# Altium footprint library aiskylab-14Connectors-01FFC-FPC.PcbLib: 118 footprints (part 3 of 8)
Each footprint in its own frame and in the unit in brackets; x right, y up, seen from the top. Pads: shape width x height; smd on the part's side, far side on the other; paste and mask are expansions set on the pad; w line width, h text height; cw(c..) or ccw(c..) is an arc to the next point about the centre after c.
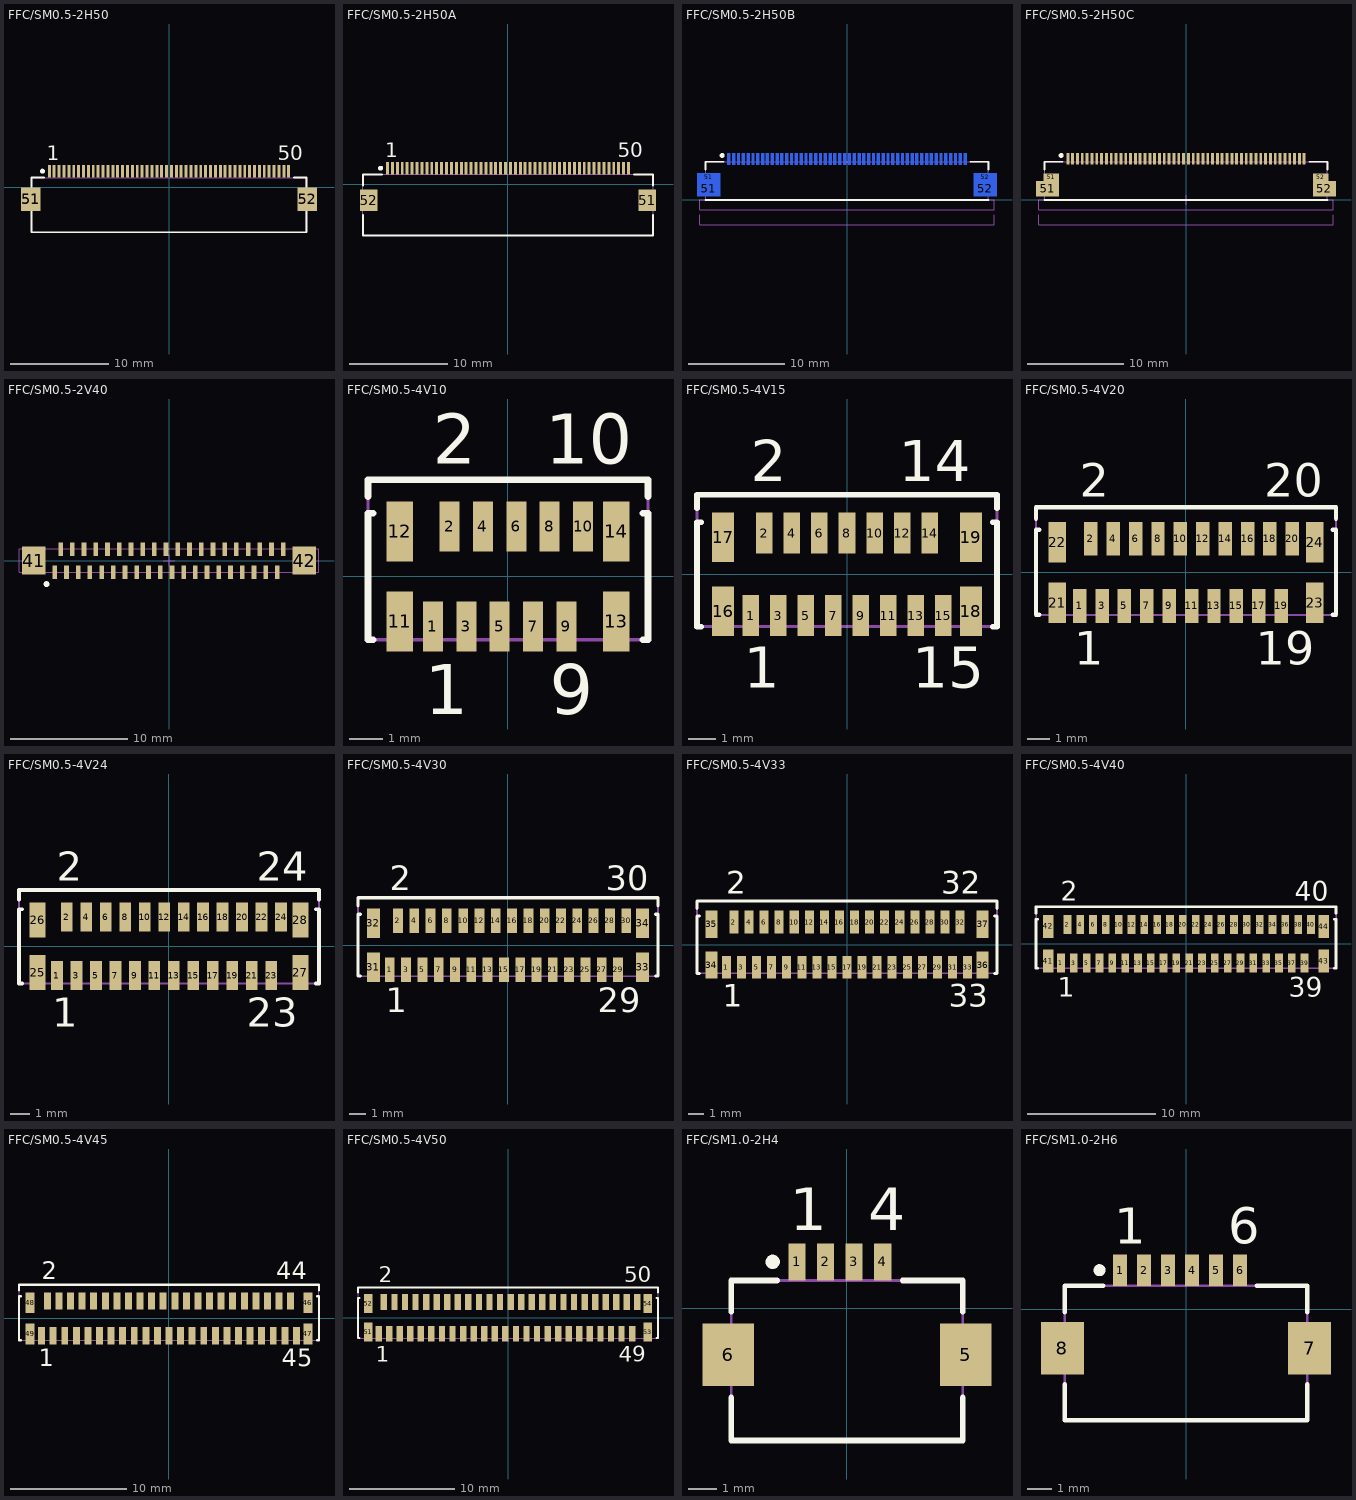
[diagram p2: the footprints below, top view; thin cyan lines are the x and y axes]

## FFC/SM0.5-2H50 [mm] "Connector; FH12 Series; 50 Position; 0.5mm Spaced Bottom Contact"
height 2
pads (52):
  rect 0.3x1.3 smd: 1(-12.25,1.625) 2(-11.75,1.625) 3(-11.25,1.625) 4(-10.75,1.625) 5(-10.25,1.625) 6(-9.75,1.625) 7(-9.25,1.625) 8(-8.75,1.625) 9(-8.25,1.625) 10(-7.75,1.625) 11(-7.25,1.625) 12(-6.75,1.625) 13(-6.25,1.625) 14(-5.75,1.625) 15(-5.25,1.625) 16(-4.75,1.625) 17(-4.25,1.625) 18(-3.75,1.625) 19(-3.25,1.625) 20(-2.75,1.625) 21(-2.25,1.625) 22(-1.75,1.625) 23(-1.25,1.625) 24(-0.75,1.625) 25(-0.25,1.625) 26(0.25,1.625) 27(0.75,1.625) 28(1.25,1.625) 29(1.75,1.625) 30(2.25,1.625) 31(2.75,1.625) 32(3.25,1.625) 33(3.75,1.625) 34(4.25,1.625) 35(4.75,1.625) 36(5.25,1.625) 37(5.75,1.625) 38(6.25,1.625) 39(6.75,1.625) 40(7.25,1.625) 41(7.75,1.625) 42(8.25,1.625) 43(8.75,1.625) 44(9.25,1.625) 45(9.75,1.625) 46(10.25,1.625) 47(10.75,1.625) 48(11.25,1.625) 49(11.75,1.625) 50(12.25,1.625)
  rect 2x2.4 smd: 51(-14.15,-1.25) 52(14.15,-1.25)
Top Overlay:
  circle w0.25: c-12.95,1.625 r0.125
  lines w0.2: -14.05,-2.15 -14.05,-4.625 14.05,-4.625 14.05,-2.2 ; -14.05,-0.125 -14.05,0.975 -12.8,0.975 ; 12.8,0.975 14.05,0.975 14.05,-0.125
  text "50" at 11.15,2.725 h1.5
  text "1" at -12.5,2.725 h1.5
Bottom Value:
  lines w0.1: -14.05,-4.625 14.05,-4.625 14.05,0.975 -14.05,0.975 -14.05,-4.625

## FFC/SM0.5-2H50A [mm] "Connector; FH12 Series; 50 Position; 0.5mm Spaced Top Contact"
height 2
pads (52):
  rect 0.3x1.3 smd: 1(-12.25,1.625) 2(-11.75,1.625) 3(-11.25,1.625) 4(-10.75,1.625) 5(-10.25,1.625) 6(-9.75,1.625) 7(-9.25,1.625) 8(-8.75,1.625) 9(-8.25,1.625) 10(-7.75,1.625) 11(-7.25,1.625) 12(-6.75,1.625) 13(-6.25,1.625) 14(-5.75,1.625) 15(-5.25,1.625) 16(-4.75,1.625) 17(-4.25,1.625) 18(-3.75,1.625) 19(-3.25,1.625) 20(-2.75,1.625) 21(-2.25,1.625) 22(-1.75,1.625) 23(-1.25,1.625) 24(-0.75,1.625) 25(-0.25,1.625) 26(0.25,1.625) 27(0.75,1.625) 28(1.25,1.625) 29(1.75,1.625) 30(2.25,1.625) 31(2.75,1.625) 32(3.25,1.625) 33(3.75,1.625) 34(4.25,1.625) 35(4.75,1.625) 36(5.25,1.625) 37(5.75,1.625) 38(6.25,1.625) 39(6.75,1.625) 40(7.25,1.625) 41(7.75,1.625) 42(8.25,1.625) 43(8.75,1.625) 44(9.25,1.625) 45(9.75,1.625) 46(10.25,1.625) 47(10.75,1.625) 48(11.25,1.625) 49(11.75,1.625) 50(12.25,1.625)
  rect 1.8x2.2 smd: 51(14.15,-1.625) 52(-14.15,-1.625)
Top Overlay:
  circle w0.25: c-12.95,1.625 r0.125
  lines w0.2: -14.75,-3.125 -14.75,-5.2 14.75,-5.2 14.75,-3.125 ; -14.75,-0.125 -14.75,1 -12.8,1 ; 12.8,1 14.75,1 14.75,-0.125
  text "50" at 11.15,2.725 h1.5
  text "1" at -12.5,2.725 h1.5
Bottom Value:
  lines w0.1: -14.75,-5.2 14.75,-5.2 14.75,1 -14.75,1 -14.75,-5.2

## FFC/SM0.5-2H50B [mm] "Connector; FPC/FFC, SM, 50 Position, Right Angle, Pitch 0.50mm, Body 30.5x5.0mm (LxW), Bottom Contatcts"
height 2
pads (54):
  rect 0.3x1.2 smd far side: 1(-12.25,4.25) 2(-11.75,4.25) 3(-11.25,4.25) 4(-10.75,4.25) 5(-10.25,4.25) 6(-9.75,4.25) 7(-9.25,4.25) 8(-8.75,4.25) 9(-8.25,4.25) 10(-7.75,4.25) 11(-7.25,4.25) 12(-6.75,4.25) 13(-6.25,4.25) 14(-5.75,4.25) 15(-5.25,4.25) 16(-4.75,4.25) 17(-4.25,4.25) 18(-3.75,4.25) 19(-3.25,4.25) 20(-2.75,4.25) 21(-2.25,4.25) 22(-1.75,4.25) 23(-1.25,4.25) 24(-0.75,4.25) 25(-0.25,4.25) 26(0.25,4.25) 27(0.75,4.25) 28(1.25,4.25) 29(1.75,4.25) 30(2.25,4.25) 31(2.75,4.25) 32(3.25,4.25) 33(3.75,4.25) 34(4.25,4.25) 35(4.75,4.25) 36(5.25,4.25) 37(5.75,4.25) 38(6.25,4.25) 39(6.75,4.25) 40(7.25,4.25) 41(7.75,4.25) 42(8.25,4.25) 43(8.75,4.25) 44(9.25,4.25) 45(9.75,4.25) 46(10.25,4.25) 47(10.75,4.25) 48(11.25,4.25) 49(11.75,4.25) 50(12.25,4.25)
  rect 2.4x1.6 smd far side: 51(-14.35,1.15) 52(14.35,1.15)
  rect 2.4x0.8 smd far side: 51(-14.35,2.35) 52(14.35,2.35)
Top Overlay:
  circle w0.25: c-12.95,4.6 r0.125
  lines w0.2: -14.65,0 14.65,0 ; -14.65,3.15 -14.65,3.95 -12.8,3.95 ; 12.8,3.95 14.65,3.95 14.65,3.15
Bottom Value:
  lines w0.1: -15.25,-1.55 -15.25,-2.6 15.25,-2.6 15.25,-1.55 ; -15.25,-1.05 15.25,-1.05 15.25,0 -15.25,0 -15.25,-1.05 ; -14.65,0 -14.65,3.95 14.65,3.95 14.65,0 -14.65,0

## FFC/SM0.5-2H50C [mm] "Connector; FPC/FFC, SM, 50 Position, Right Angle, Pitch 0.50mm, Body 30.5x5.0mm (LxW), Top Contacts"
height 2
pads (54):
  rect 0.3x1.2 smd: 1(-12.25,4.25) 2(-11.75,4.25) 3(-11.25,4.25) 4(-10.75,4.25) 5(-10.25,4.25) 6(-9.75,4.25) 7(-9.25,4.25) 8(-8.75,4.25) 9(-8.25,4.25) 10(-7.75,4.25) 11(-7.25,4.25) 12(-6.75,4.25) 13(-6.25,4.25) 14(-5.75,4.25) 15(-5.25,4.25) 16(-4.75,4.25) 17(-4.25,4.25) 18(-3.75,4.25) 19(-3.25,4.25) 20(-2.75,4.25) 21(-2.25,4.25) 22(-1.75,4.25) 23(-1.25,4.25) 24(-0.75,4.25) 25(-0.25,4.25) 26(0.25,4.25) 27(0.75,4.25) 28(1.25,4.25) 29(1.75,4.25) 30(2.25,4.25) 31(2.75,4.25) 32(3.25,4.25) 33(3.75,4.25) 34(4.25,4.25) 35(4.75,4.25) 36(5.25,4.25) 37(5.75,4.25) 38(6.25,4.25) 39(6.75,4.25) 40(7.25,4.25) 41(7.75,4.25) 42(8.25,4.25) 43(8.75,4.25) 44(9.25,4.25) 45(9.75,4.25) 46(10.25,4.25) 47(10.75,4.25) 48(11.25,4.25) 49(11.75,4.25) 50(12.25,4.25)
  rect 2.4x1.6 smd: 51(-14.35,1.15) 52(14.35,1.15)
  rect 1.6x0.8 smd: 51(-13.95,2.35) 52(13.95,2.35)
Top Overlay:
  circle w0.25: c-12.95,4.6 r0.125
  lines w0.2: -14.65,0 14.65,0 ; -14.65,3.15 -14.65,3.95 -12.8,3.95 ; 12.8,3.95 14.65,3.95 14.65,3.15
Bottom Value:
  lines w0.1: -15.25,-1.55 -15.25,-2.6 15.25,-2.6 15.25,-1.55 ; -15.25,-1.05 -15.25,0 15.25,0 15.25,-1.05 -15.25,-1.05 ; -14.65,0 14.65,0 14.65,3.95 -14.65,3.95 -14.65,0
Bottom 3D Body:
  lines w0.1: -0.5,0 0.5,0 ; 0,-0.5 0,0.5

## FFC/SM0.5-2V40 [mm] "Connector; ZIF FPC 40 Position; 0.5mm Spaced Vertical Mounting"
height 4.9
pads (42):
  rect 0.4x1.15 smd: 1(-9.75,-0.975) 2(-9.25,0.975) 3(-8.75,-0.975) 4(-8.25,0.975) 5(-7.75,-0.975) 6(-7.25,0.975) 7(-6.75,-0.975) 8(-6.25,0.975) 9(-5.75,-0.975) 10(-5.25,0.975) 11(-4.75,-0.975) 12(-4.25,0.975) 13(-3.75,-0.975) 14(-3.25,0.975) 15(-2.75,-0.975) 16(-2.25,0.975) 17(-1.75,-0.975) 18(-1.25,0.975) 19(-0.75,-0.975) 20(-0.25,0.975) 21(0.25,-0.975) 22(0.75,0.975) 23(1.25,-0.975) 24(1.75,0.975) 25(2.25,-0.975) 26(2.75,0.975) 27(3.25,-0.975) 28(3.75,0.975) 29(4.25,-0.975) 30(4.75,0.975) 31(5.25,-0.975) 32(5.75,0.975) 33(6.25,-0.975) 34(6.75,0.975) 35(7.25,-0.975) 36(7.75,0.975) 37(8.25,-0.975) 38(8.75,0.975) 39(9.25,-0.975) 40(9.75,0.975)
  rect 2x2.4 smd: 41(-11.55,0) 42(11.55,0)
Top Overlay:
  circle w0.25: c-10.45,-2 r0.125
Bottom Value:
  lines w0.1: -12.25,-1 -12.25,1 ; 12.25,-1 12.25,1 ; -12.8,-1 -12.8,1 12.8,1 12.8,-1 -12.8,-1
Bottom 3D Body:
  lines w0.1: -0.5,0 0.5,0 ; 0,-0.5 0,0.5

## FFC/SM0.5-4V10 [mm] "Connector; FH12 Series; 10 Position; 0.5mm Spaced Vertical Mounting"
height 4.85
pads (14):
  rect 0.6x1.5 smd: 1(-2.25,-1.5) 2(-1.75,1.5) 3(-1.25,-1.5) 4(-0.75,1.5) 5(-0.25,-1.5) 6(0.25,1.5) 7(0.75,-1.5) 8(1.25,1.5) 9(1.75,-1.5) 10(2.25,1.5)
  rect 0.8x1.8 smd: 11(-3.25,-1.35) 12(-3.25,1.35) 13(3.25,-1.35) 14(3.25,1.35)
Top Overlay:
  lines w0.2: -4.2,2.4 -4.2,2.9 4.2,2.9 4.2,2.4 ; -4.05,-1.9 -4.2,-1.9 -4.2,1.9 -4.05,1.9 ; 4.05,-1.9 4.2,-1.9 4.2,1.9 4.05,1.9
  text "9" at 1.25,-4.125 h1.5
  text "10" at 1.125,3.375 h1.5
  text "1" at -2.5,-4.125 h1.5
  text "2" at -2.25,3.375 h1.5
Bottom Value:
  lines w0.1: -4.2,-1.9 -4.2,2.9 4.2,2.9 4.2,-1.9 -4.2,-1.9

## FFC/SM0.5-4V15 [mm] "Connector; FH12 Series; 15 Position; 0.5mm Spaced Vertical Mounting"
height 4.85
pads (19):
  rect 0.6x1.5 smd: 1(-3.5,-1.5) 2(-3,1.5) 3(-2.5,-1.5) 4(-2,1.5) 5(-1.5,-1.5) 6(-1,1.5) 7(-0.5,-1.5) 8(0,1.5) 9(0.5,-1.5) 10(1,1.5) 11(1.5,-1.5) 12(2,1.5) 13(2.5,-1.5) 14(3,1.5) 15(3.5,-1.5)
  rect 0.8x1.8 smd: 16(-4.5,-1.35) 17(-4.5,1.35) 18(4.5,-1.35) 19(4.5,1.35)
Top Overlay:
  lines w0.2: -5.45,2.4 -5.45,2.9 5.45,2.9 5.45,2.4 ; -5.3,-1.9 -5.45,-1.9 -5.45,1.9 -5.3,1.9 ; 5.3,-1.9 5.45,-1.9 5.45,1.9 5.3,1.9
  text "14" at 1.875,3.375 h1.5
  text "1" at -3.75,-4.125 h1.5
  text "2" at -3.5,3.375 h1.5
  text "15" at 2.375,-4.125 h1.5
Bottom Value:
  lines w0.1: -5.45,-1.9 5.45,-1.9 5.45,2.9 -5.45,2.9 -5.45,-1.9

## FFC/SM0.5-4V20 [mm] "Connector; FH12 Series; 20 Position; 0.5mm Spaced Vertical Mounting"
height 4.85
pads (24):
  rect 0.6x1.5 smd: 1(-4.75,-1.5) 2(-4.25,1.5) 3(-3.75,-1.5) 4(-3.25,1.5) 5(-2.75,-1.5) 6(-2.25,1.5) 7(-1.75,-1.5) 8(-1.25,1.5) 9(-0.75,-1.5) 10(-0.25,1.5) 11(0.25,-1.5) 12(0.75,1.5) 13(1.25,-1.5) 14(1.75,1.5) 15(2.25,-1.5) 16(2.75,1.5) 17(3.25,-1.5) 18(3.75,1.5) 19(4.25,-1.5) 20(4.75,1.5)
  rect 0.8x1.8 smd: 21(-5.75,-1.35) 22(-5.75,1.35) 23(5.75,-1.35) 24(5.75,1.35)
Top Overlay:
  lines w0.2: -6.7,2.4 -6.7,2.9 6.7,2.9 6.7,2.4 ; -6.55,-1.9 -6.7,-1.9 -6.7,1.9 -6.55,1.9 ; 6.55,-1.9 6.7,-1.9 6.7,1.9 6.55,1.9
  text "19" at 3.125,-4.125 h1.5
  text "20" at 3.5,3.375 h1.5
  text "2" at -4.75,3.375 h1.5
  text "1" at -5,-4.125 h1.5
Bottom Value:
  lines w0.1: -6.7,-1.9 -6.7,2.9 6.7,2.9 6.7,-1.9 -6.7,-1.9

## FFC/SM0.5-4V24 [mm] "Connector; FH12 Series; 24 Position; 0.5mm Spaced Vertical Mounting"
height 4.85
pads (28):
  rect 0.6x1.5 smd: 1(-5.75,-1.5) 2(-5.25,1.5) 3(-4.75,-1.5) 4(-4.25,1.5) 5(-3.75,-1.5) 6(-3.25,1.5) 7(-2.75,-1.5) 8(-2.25,1.5) 9(-1.75,-1.5) 10(-1.25,1.5) 11(-0.75,-1.5) 12(-0.25,1.5) 13(0.25,-1.5) 14(0.75,1.5) 15(1.25,-1.5) 16(1.75,1.5) 17(2.25,-1.5) 18(2.75,1.5) 19(3.25,-1.5) 20(3.75,1.5) 21(4.25,-1.5) 22(4.75,1.5) 23(5.25,-1.5) 24(5.75,1.5)
  rect 0.8x1.8 smd: 25(-6.75,-1.35) 26(-6.75,1.35) 27(6.75,-1.35) 28(6.75,1.35)
Top Overlay:
  lines w0.2: -7.7,2.4 -7.7,2.9 7.7,2.9 7.7,2.4 ; -7.55,-1.9 -7.7,-1.9 -7.7,1.9 -7.55,1.9 ; 7.55,-1.9 7.7,-1.9 7.7,1.9 7.55,1.9
  text "23" at 4,-4.125 h1.5
  text "24" at 4.5,3.375 h1.5
  text "2" at -5.75,3.375 h1.5
  text "1" at -6,-4.125 h1.5
Bottom Value:
  lines w0.1: -7.7,-1.9 -7.7,2.9 7.7,2.9 7.7,-1.9 -7.7,-1.9

## FFC/SM0.5-4V30 [mm] "Connector; FH12 Series; 30 Position; 0.5mm Spaced Vertical Mounting"
height 4.85
pads (34):
  rect 0.6x1.5 smd: 1(-7.25,-1.5) 2(-6.75,1.5) 3(-6.25,-1.5) 4(-5.75,1.5) 5(-5.25,-1.5) 6(-4.75,1.5) 7(-4.25,-1.5) 8(-3.75,1.5) 9(-3.25,-1.5) 10(-2.75,1.5) 11(-2.25,-1.5) 12(-1.75,1.5) 13(-1.25,-1.5) 14(-0.75,1.5) 15(-0.25,-1.5) 16(0.25,1.5) 17(0.75,-1.5) 18(1.25,1.5) 19(1.75,-1.5) 20(2.25,1.5) 21(2.75,-1.5) 22(3.25,1.5) 23(3.75,-1.5) 24(4.25,1.5) 25(4.75,-1.5) 26(5.25,1.5) 27(5.75,-1.5) 28(6.25,1.5) 29(6.75,-1.5) 30(7.25,1.5)
  rect 0.8x1.8 smd: 31(-8.25,-1.35) 32(-8.25,1.35) 33(8.25,-1.35) 34(8.25,1.35)
Top Overlay:
  lines w0.2: -9.2,2.4 -9.2,2.9 9.2,2.9 9.2,2.4 ; -9.05,-1.9 -9.2,-1.9 -9.2,1.9 -9.05,1.9 ; 9.05,-1.9 9.2,-1.9 9.2,1.9 9.05,1.9
  text "1" at -7.5,-4.125 h1.5
  text "30" at 6,3.375 h1.5
  text "2" at -7.25,3.375 h1.5
  text "29" at 5.5,-4.125 h1.5
Bottom Value:
  lines w0.1: -9.2,-1.9 -9.2,2.9 9.2,2.9 9.2,-1.9 -9.2,-1.9

## FFC/SM0.5-4V33 [mm] "Connector; FH12 Series; 33 Position; 0.5mm Spaced Vertical Mounting"
height 4.85
pads (37):
  rect 0.6x1.5 smd: 1(-8,-1.5) 2(-7.5,1.5) 3(-7,-1.5) 4(-6.5,1.5) 5(-6,-1.5) 6(-5.5,1.5) 7(-5,-1.5) 8(-4.5,1.5) 9(-4,-1.5) 10(-3.5,1.5) 11(-3,-1.5) 12(-2.5,1.5) 13(-2,-1.5) 14(-1.5,1.5) 15(-1,-1.5) 16(-0.5,1.5) 17(0,-1.5) 18(0.5,1.5) 19(1,-1.5) 20(1.5,1.5) 21(2,-1.5) 22(2.5,1.5) 23(3,-1.5) 24(3.5,1.5) 25(4,-1.5) 26(4.5,1.5) 27(5,-1.5) 28(5.5,1.5) 29(6,-1.5) 30(6.5,1.5) 31(7,-1.5) 32(7.5,1.5) 33(8,-1.5)
  rect 0.8x1.8 smd: 34(-9,-1.35) 35(-9,1.35) 36(9,-1.35) 37(9,1.35)
Top Overlay:
  lines w0.2: -9.95,2.4 -9.95,2.9 9.95,2.9 9.95,2.4 ; -9.8,-1.9 -9.95,-1.9 -9.95,1.9 -9.8,1.9 ; 9.8,-1.9 9.95,-1.9 9.95,1.9 9.8,1.9
  text "33" at 6.75,-4.125 h1.5
  text "1" at -8.25,-4.125 h1.5
  text "2" at -8,3.375 h1.5
  text "32" at 6.25,3.375 h1.5
Bottom Value:
  lines w0.1: -9.95,-1.9 -9.95,2.9 9.95,2.9 9.95,-1.9 -9.95,-1.9

## FFC/SM0.5-4V40 [mm] "Connector; FH12 Series; 40 Position; 0.5mm Spaced Vertical Mounting"
height 4.85
pads (44):
  rect 0.6x1.5 smd: 1(-9.75,-1.5) 2(-9.25,1.5) 3(-8.75,-1.5) 4(-8.25,1.5) 5(-7.75,-1.5) 6(-7.25,1.5) 7(-6.75,-1.5) 8(-6.25,1.5) 9(-5.75,-1.5) 10(-5.25,1.5) 11(-4.75,-1.5) 12(-4.25,1.5) 13(-3.75,-1.5) 14(-3.25,1.5) 15(-2.75,-1.5) 16(-2.25,1.5) 17(-1.75,-1.5) 18(-1.25,1.5) 19(-0.75,-1.5) 20(-0.25,1.5) 21(0.25,-1.5) 22(0.75,1.5) 23(1.25,-1.5) 24(1.75,1.5) 25(2.25,-1.5) 26(2.75,1.5) 27(3.25,-1.5) 28(3.75,1.5) 29(4.25,-1.5) 30(4.75,1.5) 31(5.25,-1.5) 32(5.75,1.5) 33(6.25,-1.5) 34(6.75,1.5) 35(7.25,-1.5) 36(7.75,1.5) 37(8.25,-1.5) 38(8.75,1.5) 39(9.25,-1.5) 40(9.75,1.5)
  rect 0.8x1.8 smd: 41(-10.75,-1.35) 42(-10.75,1.35) 43(10.75,-1.35) 44(10.75,1.35)
Top Overlay:
  lines w0.2: -11.7,2.4 -11.7,2.9 11.7,2.9 11.7,2.4 ; -11.55,-1.9 -11.7,-1.9 -11.7,1.9 -11.55,1.9 ; 11.55,-1.9 11.7,-1.9 11.7,1.9 11.55,1.9
  text "39" at 8,-4.125 h1.5
  text "40" at 8.5,3.375 h1.5
  text "2" at -9.75,3.375 h1.5
  text "1" at -10,-4.125 h1.5
Bottom Value:
  lines w0.1: -11.7,-1.9 -11.7,2.9 11.7,2.9 11.7,-1.9 -11.7,-1.9

## FFC/SM0.5-4V45 [mm] "Connector; FH12 Series; 45 Position; 0.5mm Spaced Vertical Mounting"
height 4.85
pads (49):
  rect 0.6x1.5 smd: 1(-11,-1.5) 2(-10.5,1.5) 3(-10,-1.5) 4(-9.5,1.5) 5(-9,-1.5) 6(-8.5,1.5) 7(-8,-1.5) 8(-7.5,1.5) 9(-7,-1.5) 10(-6.5,1.5) 11(-6,-1.5) 12(-5.5,1.5) 13(-5,-1.5) 14(-4.5,1.5) 15(-4,-1.5) 16(-3.5,1.5) 17(-3,-1.5) 18(-2.5,1.5) 19(-2,-1.5) 20(-1.5,1.5) 21(-1,-1.5) 22(-0.5,1.5) 23(0,-1.5) 24(0.5,1.5) 25(1,-1.5) 26(1.5,1.5) 27(2,-1.5) 28(2.5,1.5) 29(3,-1.5) 30(3.5,1.5) 31(4,-1.5) 32(4.5,1.5) 33(5,-1.5) 34(5.5,1.5) 35(6,-1.5) 36(6.5,1.5) 37(7,-1.5) 38(7.5,1.5) 39(8,-1.5) 40(8.5,1.5) 41(9,-1.5) 42(9.5,1.5) 43(10,-1.5) 44(10.5,1.5) 45(11,-1.5)
  rect 0.8x1.8 smd: 46(12,1.35) 47(12,-1.35) 48(-12,1.35) 49(-12,-1.35)
Top Overlay:
  lines w0.2: -12.95,2.4 -12.95,2.9 12.95,2.9 12.95,2.4 ; -12.8,-1.9 -12.95,-1.9 -12.95,1.9 -12.8,1.9 ; 12.8,-1.9 12.95,-1.9 12.95,1.9 12.8,1.9
  text "2" at -11,3.375 h1.5
  text "1" at -11.25,-4.125 h1.5
  text "44" at 9.25,3.375 h1.5
  text "45" at 9.75,-4.125 h1.5
Bottom Value:
  lines w0.1: -12.95,-1.9 -12.95,2.9 12.95,2.9 12.95,-1.9 -12.95,-1.9

## FFC/SM0.5-4V50 [mm] "Connector; FH12 Series; 50 Position; 0.5mm Spaced Vertical Mounting"
height 4.85
pads (54):
  rect 0.6x1.5 smd: 1(-12.25,-1.5) 2(-11.75,1.5) 3(-11.25,-1.5) 4(-10.75,1.5) 5(-10.25,-1.5) 6(-9.75,1.5) 7(-9.25,-1.5) 8(-8.75,1.5) 9(-8.25,-1.5) 10(-7.75,1.5) 11(-7.25,-1.5) 12(-6.75,1.5) 13(-6.25,-1.5) 14(-5.75,1.5) 15(-5.25,-1.5) 16(-4.75,1.5) 17(-4.25,-1.5) 18(-3.75,1.5) 19(-3.25,-1.5) 20(-2.75,1.5) 21(-2.25,-1.5) 22(-1.75,1.5) 23(-1.25,-1.5) 24(-0.75,1.5) 25(-0.25,-1.5) 26(0.25,1.5) 27(0.75,-1.5) 28(1.25,1.5) 29(1.75,-1.5) 30(2.25,1.5) 31(2.75,-1.5) 32(3.25,1.5) 33(3.75,-1.5) 34(4.25,1.5) 35(4.75,-1.5) 36(5.25,1.5) 37(5.75,-1.5) 38(6.25,1.5) 39(6.75,-1.5) 40(7.25,1.5) 41(7.75,-1.5) 42(8.25,1.5) 43(8.75,-1.5) 44(9.25,1.5) 45(9.75,-1.5) 46(10.25,1.5) 47(10.75,-1.5) 48(11.25,1.5) 49(11.75,-1.5) 50(12.25,1.5)
  rect 0.8x1.8 smd: 51(-13.25,-1.35) 52(-13.25,1.35) 53(13.25,-1.35) 54(13.25,1.35)
Top Overlay:
  lines w0.2: -14.2,2.4 -14.2,2.9 14.2,2.9 14.2,2.4 ; -14.05,-1.9 -14.2,-1.9 -14.2,1.9 -14.05,1.9 ; 14.05,-1.9 14.2,-1.9 14.2,1.9 14.05,1.9
  text "50" at 11,3.375 h1.5
  text "49" at 10.5,-4.125 h1.5
  text "2" at -12.25,3.375 h1.5
  text "1" at -12.5,-4.125 h1.5
Bottom Value:
  lines w0.1: -14.2,-1.9 -14.2,2.9 14.2,2.9 14.2,-1.9 -14.2,-1.9

## FFC/SM1.0-2H4 [mm] "Connector; FH12 Series; 4 Position; 1.0mm Spaced Bottom Eccentric Contact"
height 2
pads (6):
  rect 0.6x1.3 smd: 1(-1.75,1.625) 2(-0.75,1.625) 3(0.25,1.625) 4(1.25,1.625)
  rect 1.8x2.2 smd: 5(4.15,-1.625) 6(-4.15,-1.625)
Top Overlay:
  circle w0.25: c-2.6,1.625 r0.125
  lines w0.2: -4.05,-3.125 -4.05,-4.625 4.05,-4.625 4.05,-3.125 ; -4.05,-0.125 -4.05,0.975 -2.45,0.975 ; 1.95,0.975 4.05,0.975 4.05,-0.125
  text "1" at -2,2.725 h1.5
  text "4" at 0.75,2.725 h1.5
Bottom Value:
  lines w0.1: -4.05,-4.625 -4.05,0.975 4.05,0.975 4.05,-4.625 -4.05,-4.625

## FFC/SM1.0-2H6 [mm] "Connector; FH12 Series; 6 Position; 1.0mm Spaced Bottom Eccentric Contact"
height 2
pads (8):
  rect 0.6x1.3 smd: 1(-2.75,1.625) 2(-1.75,1.625) 3(-0.75,1.625) 4(0.25,1.625) 5(1.25,1.625) 6(2.25,1.625)
  rect 1.8x2.2 smd: 7(5.15,-1.625) 8(-5.15,-1.625)
Top Overlay:
  circle w0.25: c-3.6,1.625 r0.125
  lines w0.2: -5.05,-3.125 -5.05,-4.625 5.05,-4.625 5.05,-3.125 ; -5.05,-0.125 -5.05,0.975 -3.45,0.975 ; 2.95,0.975 5.05,0.975 5.05,-0.125
  text "1" at -3,2.725 h1.5
  text "6" at 1.75,2.725 h1.5
Bottom Value:
  lines w0.1: -5.05,-4.625 5.05,-4.625 5.05,0.975 -5.05,0.975 -5.05,-4.625